# EAGLE library part DF13 (library OSSI)
Hirose DF13 series connector
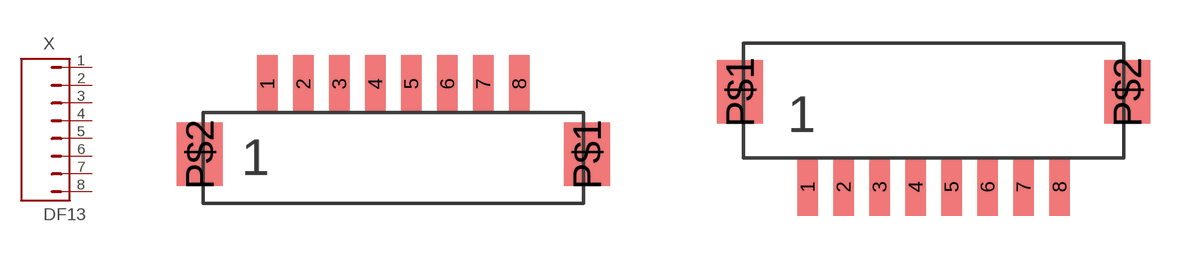
[diagram p38: symbol with the pads of DF13C-8P; footprints DF13C-8P, DF13A-8P]

Designator prefix X

## DF13DF13C-8P-1.25V  [DF13C-8P]
1  1  pas
2  2  pas
3  3  pas
4  4  pas
5  5  pas
6  6  pas
7  7  pas
8  8  pas

## DF13DF13A-8P-1.25H  [DF13A-8P]
Pads as for DF13C-8P

## DF13DF13-8P-1.25DSA  [DF13-8P-1.25DSA]
Pads as for DF13C-8P

## Footprint DF13C-8P (pad centres in mm)
Hirose DF13C-8p
smd 0.7 x 2: 1 -4.375,0; 2 -3.125,0; 3 -1.875,0; 4 -0.625,0; 5 0.625,0; 6 1.875,0; 7 3.125,0; 8 4.375,0
smd 1.6 x 2.2: P$1 6.725,-2.45; P$2 -6.725,-2.45

## Footprint DF13A-8P (pad centres in mm)
Hirose DF13A-8P
smd 0.7 x 2: 1 -4.375,0; 2 -3.125,0; 3 -1.875,0; 4 -0.625,0; 5 0.625,0; 6 1.875,0; 7 3.125,0; 8 4.375,0
smd 1.6 x 2.2: P$1 -6.725,3.3; P$2 6.725,3.3

## Footprint DF13-8P-1.25DSA (pad centres in mm)
Hirose DF13-8P-1.25DSA through hole type vertical
drill 0.6: 1 4.375,0; 2 3.125,0; 3 1.875,0; 4 0.625,0; 5 -0.625,0; 6 -1.875,0; 7 -3.125,0; 8 -4.375,0